# Altium schematic symbol library BH9VPC.SchLib: 1 symbol
Pins are listed as number, name and electrical type; pins without a type are passive.

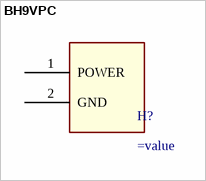
[diagram p0: symbol BH9VPC]

## BH9VPC
designator H?
pins: 1 POWER, 2 GND